# Altium schematic symbol library BMA423.SchLib: 1 symbol
Pins are listed as number, name and electrical type; pins without a type are passive.

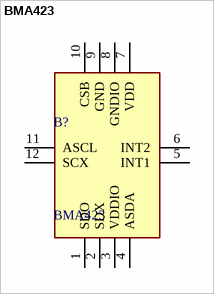
[diagram p0: symbol BMA423]

## BMA423
designator B?
Accelerometers Triaxial low-g 12bit Acceleration Sensor; Manufacturer_Name: BOSCH; Geometry.Height: 1mm; Manufacturer_Part_Number: BMA423; Mouser Part Number: 262-BMA423; Mouser Price/Stock: https://www.mouser.co.uk/ProductDetail/Bosch-Sensortec/BMA423?qs=HXFqYaX1Q2xC%252BSgeGoX3mg%3D%3D; Arrow Part Number: BMA423; Arrow Price/Stock: https://www.arrow.com/en/products/bma423/bosch; Datasheet Link: https://www.mouser.com/datasheet/2/783/BST-BMA423-DS000-1509600.pdf
footprint BMA423
pins: 1 SDO, 2 SDX, 3 VDDIO, 4 ASDA, 5 INT1, 6 INT2, 7 VDD, 8 GNDIO, 9 GND, 10 CSB, 11 ASCL, 12 SCX